# Altium integrated library BD00C0AWHFP-CTR.IntLib: 2 symbols
Pins are listed as number, name and electrical type; pins without a type are passive.

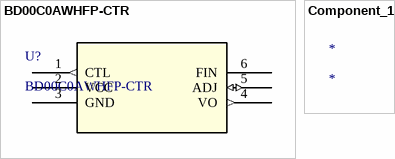
[diagram p0: symbols BD00C0AWHFP-CTR to Component_1]

## BD00C0AWHFP-CTR
designator U?
No Description Available; Mfr_Name: ROHM Semiconductor; Copyright: Copyright (C) 2022 Ultra Librarian. All rights reserved.; Manufacturer_Part_Number: BD00C0AWHFP-CTR; RefDes: RefDes; Type: DEV
footprint HRP5_BD00C0_ROM
pins: 1 CTL (out), 2 VCC (power), 3 GND, 4 VO (out), 5 ADJ (io), 6 FIN

## Component_1
designator *